# EAGLE library part MNR04MRAPJ680 (library ECE477_Guitutar)
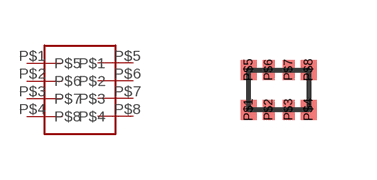
[diagram p3: symbol with the pads of MNR04; footprint MNR04]

Designator prefix -

## MNR04MRAPJ680  [MNR04]
P$1  P$1
P$2  P$2
P$3  P$3
P$4  P$4
P$5  P$5
P$6  P$6
P$7  P$7
P$8  P$8

## Footprint MNR04 (pad centres in mm)
smd 0.4 x 0.5: P$1 -0.8,-0.5; P$4 0.7,-0.5; P$5 -0.8,0.5; P$8 0.7,0.5
smd 0.3 x 0.5: P$2 -0.3,-0.5; P$3 0.2,-0.5; P$6 -0.3,0.5; P$7 0.2,0.5